# Altium schematic symbol library 503480-1000.Schlib: 1 symbol
Pins are listed as number, name and electrical type; pins without a type are passive.

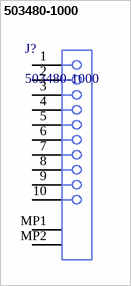
[diagram p0: symbol 503480-1000]

## 503480-1000
designator J?
pins: 1, 2, 3, 4, 5, 6, 7, 8, 9, 10, MP1, MP2